# Altium integrated library ALC5616-CGT.IntLib: 2 symbols
Pins are listed as number, name and electrical type; pins without a type are passive.

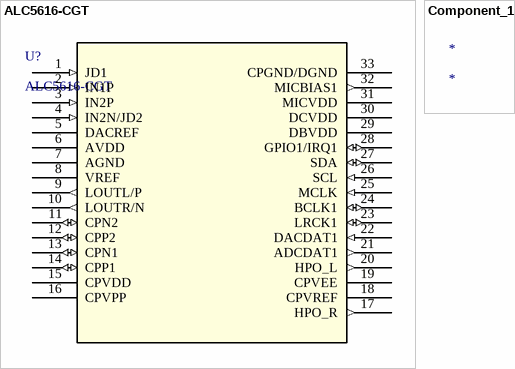
[diagram p0: symbols ALC5616-CGT to Component_1]

## ALC5616-CGT
designator U?
No Description Available; Mfr_Name: Realtek; Copyright: Copyright (C) 2022 Ultra Librarian. All rights reserved.; Manufacturer_Part_Number: ALC5616-CGT; RefDes: RefDes; Type: DEV
footprint QFN32_4X4_RTK
pins: 1 JD1 (in), 2 IN1P (in), 3 IN2P (in), 4 IN2N/JD2 (in), 5 DACREF (power), 6 AVDD (power), 7 AGND, 8 VREF (power), 9 LOUTL/P (out), 10 LOUTR/N (out), 11 CPN2 (io), 12 CPP2 (io), 13 CPN1 (io), 14 CPP1 (io), 15 CPVDD (power), 16 CPVPP (power), 17 HPO_R (out), 18 CPVREF (power), 19 CPVEE (power), 20 HPO_L (out), 21 ADCDAT1 (out), 22 DACDAT1 (in), 23 LRCK1 (io), 24 BCLK1 (io), 25 MCLK (in), 26 SCL (in), 27 SDA (io), 28 GPIO1/IRQ1 (io), 29 DBVDD (power), 30 DCVDD (power), 31 MICVDD (power), 32 MICBIAS1 (out), 33 CPGND/DGND

## Component_1
designator *